# Altium footprint library ARM_Libary_EURO.PcbLib: 112 footprints (part 3 of 7)
Each footprint in its own frame and in the unit in brackets; x right, y up, seen from the top. Pads: shape width x height; smd on the part's side, far side on the other; paste and mask are expansions set on the pad; w line width, h text height; cw(c..) or ccw(c..) is an arc to the next point about the centre after c.
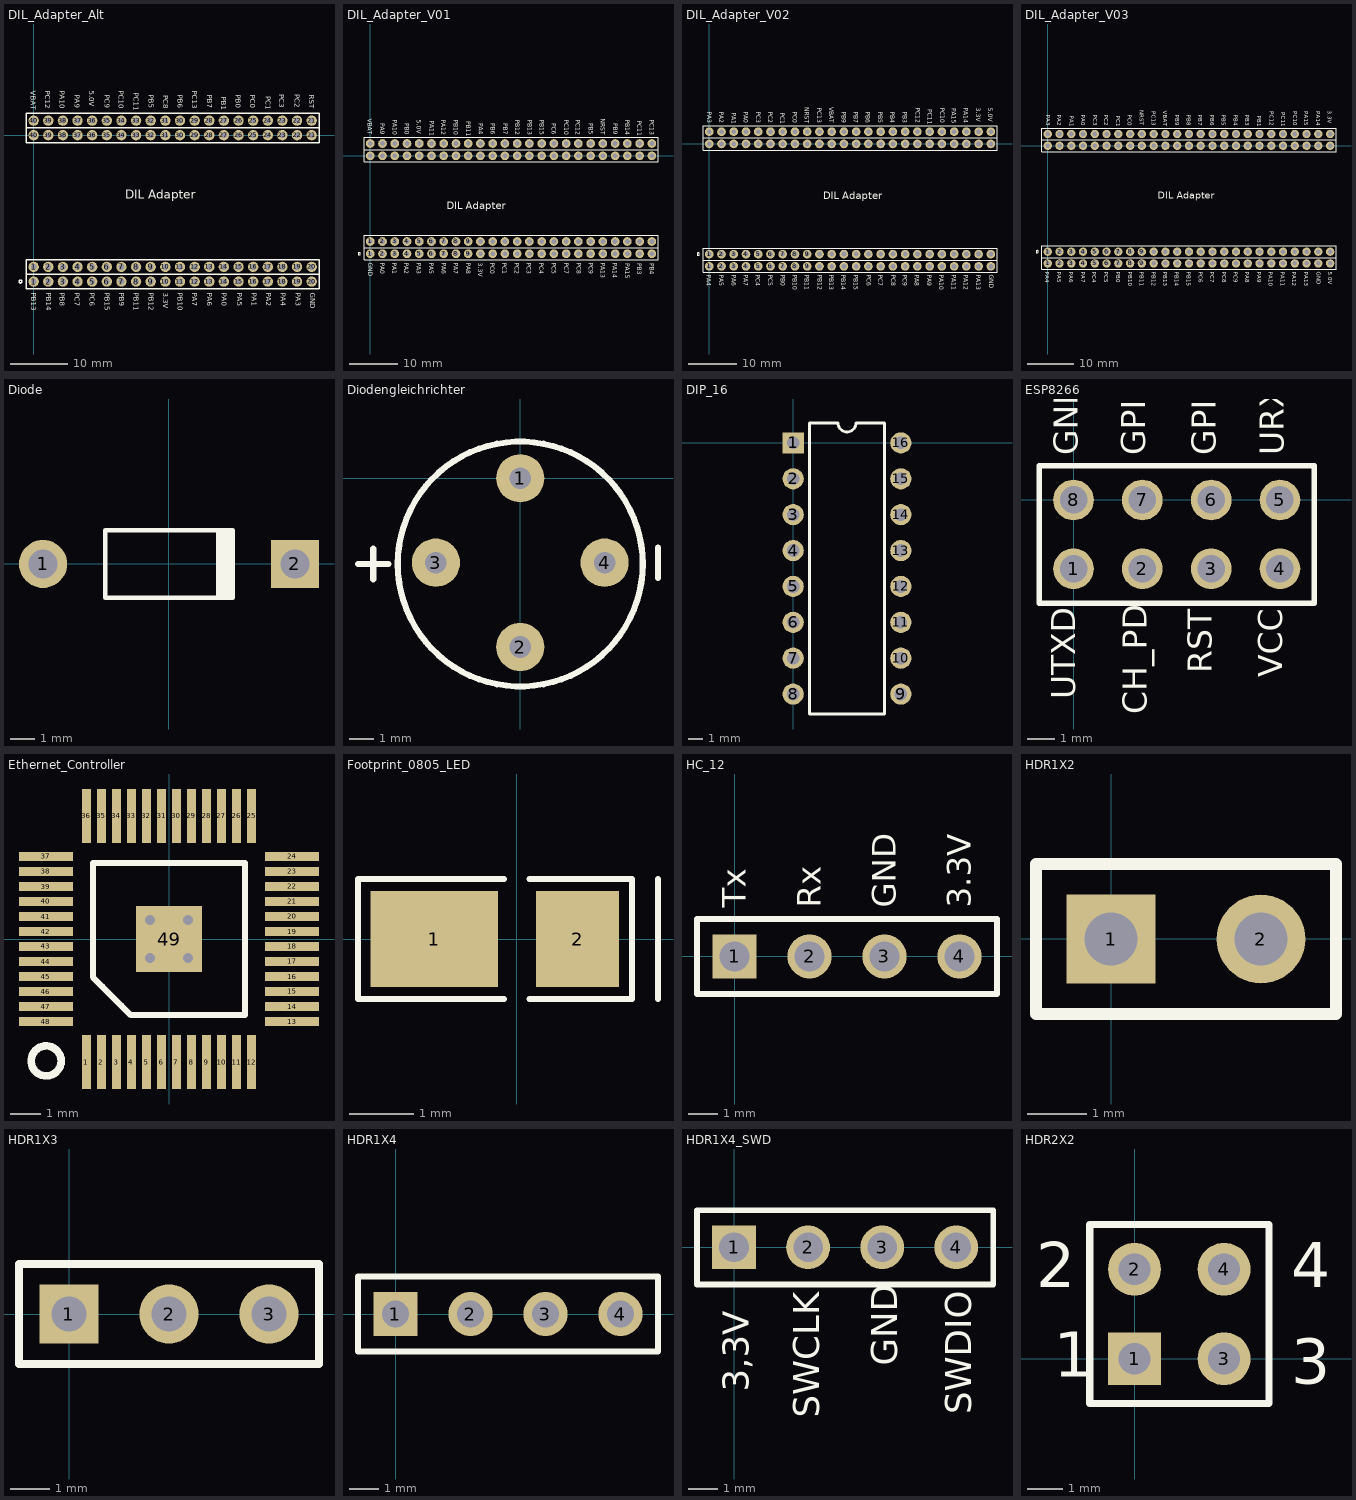
[diagram p2: the footprints below, top view; thin cyan lines are the x and y axes]

## DIL_Adapter_Alt [mm] "DIL_Adapter"
pads (80):
  round 1.8 hole 1: 1(0,-25.4) 1(0,-22.86) 2(2.54,-25.4) 2(2.54,-22.86) 3(5.08,-25.4) 3(5.08,-22.86) 4(7.62,-25.4) 4(7.62,-22.86) 5(10.16,-25.4) 5(10.16,-22.86) 6(12.7,-25.4) 6(12.7,-22.86) 7(15.24,-25.4) 7(15.24,-22.86) 8(17.78,-25.4) 8(17.78,-22.86) 9(20.32,-25.4) 9(20.32,-22.86) 10(22.86,-25.4) 10(22.86,-22.86) 11(25.4,-25.4) 11(25.4,-22.86) 12(27.94,-25.4) 12(27.94,-22.86) 13(30.48,-25.4) 13(30.48,-22.86) 14(33.02,-25.4) 14(33.02,-22.86) 15(35.56,-25.4) 15(35.56,-22.86) 16(38.1,-25.4) 16(38.1,-22.86) 17(40.64,-25.4) 17(40.64,-22.86) 18(43.18,-25.4) 18(43.18,-22.86) 19(45.72,-25.4) 19(45.72,-22.86) 20(48.26,-25.4) 20(48.26,-22.86) 21(48.26,0) 21(48.26,2.54) 22(45.72,0) 22(45.72,2.54) 23(43.18,0) 23(43.18,2.54) 24(40.64,0) 24(40.64,2.54) 25(38.1,0) 25(38.1,2.54) 26(35.56,0) 26(35.56,2.54) 27(33.02,0) 27(33.02,2.54) 28(30.48,0) 28(30.48,2.54) 29(27.94,0) 29(27.94,2.54) 30(25.4,0) 30(25.4,2.54) 31(22.86,0) 31(22.86,2.54) 32(20.32,0) 32(20.32,2.54) 33(17.78,0) 33(17.78,2.54) 34(15.24,0) 34(15.24,2.54) 35(12.7,0) 35(12.7,2.54) 36(10.16,0) 36(10.16,2.54) 37(7.62,0) 37(7.62,2.54) 38(5.08,0) 38(5.08,2.54) 39(2.54,0) 39(2.54,2.54) 40(0,0) 40(0,2.54)
Top Overlay:
  circle w0.254: c-2.286,-25.4 r0.254
  lines w0.254: -1.27,-24.13 49.53,-24.13 ; -1.27,-24.13 -1.27,-26.67 49.53,-26.67 49.53,-24.13 ; -1.27,-24.13 -1.27,-21.59 49.53,-21.59 49.53,-24.13 ; -1.27,-24.13 49.53,-24.13 ; -1.27,1.27 -1.27,3.81 49.53,3.81 49.53,1.27 ; -1.27,1.27 49.53,1.27 ; -1.27,1.27 -1.27,-1.27 49.53,-1.27 49.53,1.27 ; -1.27,1.27 49.53,1.27
  text "DIL Adapter" at 15.875,-11.049 h1.52
  text "GND" at 48.006,-27.305 h0.89
  text "PA3" at 45.466,-27.305 h0.89
  text "PA4" at 42.926,-27.305 h0.89
  text "PA2" at 40.386,-27.305 h0.89
  text "PA1" at 37.846,-27.305 h0.89
  text "PA0" at 32.639,-27.305 h0.89
  text "PA7" at 27.559,-27.305 h0.89
  text "PA6" at 30.099,-27.305 h0.89
  text "PB10" at 25.019,-27.305 h0.89
  text "3.3V" at 22.479,-27.305 h0.89
  text "PB12" at 19.939,-27.305 h0.89
  text "PB11" at 17.399,-27.305 h0.89
  text "PB9" at 14.859,-27.305 h0.89
  text "PB15" at 12.319,-27.305 h0.89
  text "PC7" at 7.112,-27.305 h0.89
  text "PC6" at 9.779,-27.305 h0.89
  text "PB14" at 2.159,-27.305 h0.89
  text "PB13" at -0.381,-27.305 h0.89
  text "PA5" at 35.306,-27.305 h0.89
  text "PC10" at 14.732,7.747 h0.89
  text "RST" at 47.879,6.985 h0.89
  text "PC2" at 45.339,7.112 h0.89
  text "PC1" at 40.259,6.731 h0.89
  text "PC3" at 42.672,7.112 h0.89
  text "PC0" at 37.592,6.985 h0.89
  text "PB0" at 35.1,6.985 h0.89
  text "PB1" at 32.6,6.7 h0.89
  text "PB7" at 30.099,6.985 h0.89
  text "PC13" at 27.559,7.747 h0.89
  text "PB6" at 25.019,6.985 h0.89
  text "PB5" at 19.939,6.985 h0.89
  text "PC8" at 22.5,6.934 h0.89
  text "PC11" at 17.399,7.366 h0.89
  text "PC9" at 12.3,7 h0.89
  text "5.0V" at 9.652,7.747 h0.89
  text "PA9" at 7.112,6.985 h0.89
  text "PA10" at 4.572,7.747 h0.89
  text "PC12" at 2.032,7.747 h0.89
  text "VBAT" at -0.508,7.747 h0.89
  text "PB8" at 4.572,-27.305 h0.89

## DIL_Adapter_V01 [mm] "DIL_Adapter"
pads (96):
  round 1.8 hole 1: 1(0,-20.32) 1(0,-17.78) 2(2.54,-20.32) 2(2.54,-17.78) 3(5.08,-20.32) 3(5.08,-17.78) 4(7.62,-20.32) 4(7.62,-17.78) 5(10.16,-20.32) 5(10.16,-17.78) 6(12.7,-20.32) 6(12.7,-17.78) 7(15.24,-20.32) 7(15.24,-17.78) 8(17.78,-20.32) 8(17.78,-17.78) 9(20.32,-20.32) 9(20.32,-17.78) 10(22.86,-20.32) 10(22.86,-17.78) 11(25.4,-20.32) 11(25.4,-17.78) 12(27.94,-20.32) 12(27.94,-17.78) 13(30.48,-20.32) 13(30.48,-17.78) 14(33.02,-20.32) 14(33.02,-17.78) 15(35.56,-20.32) 15(35.56,-17.78) 16(38.1,-20.32) 16(38.1,-17.78) 17(40.64,-20.32) 17(40.64,-17.78) 18(43.18,-20.32) 18(43.18,-17.78) 19(45.72,-20.32) 19(45.72,-17.78) 20(48.26,-20.32) 20(48.26,-17.78) 21(50.8,-20.32) 21(50.8,-17.78) 22(53.34,-20.32) 22(53.34,-17.78) 23(55.88,-20.32) 23(55.88,-17.78) 24(58.42,-20.32) 24(58.42,-17.78) 25(58.42,0) 25(58.42,2.54) 26(55.88,0) 26(55.88,2.54) 27(53.34,0) 27(53.34,2.54) 28(50.8,0) 28(50.8,2.54) 29(48.26,0) 29(48.26,2.54) 30(45.72,0) 30(45.72,2.54) 31(43.18,0) 31(43.18,2.54) 32(40.64,0) 32(40.64,2.54) 33(38.1,0) 33(38.1,2.54) 34(35.56,0) 34(35.56,2.54) 35(33.02,0) 35(33.02,2.54) 36(30.48,0) 36(30.48,2.54) 37(27.94,0) 37(27.94,2.54) 38(25.4,0) 38(25.4,2.54) 39(22.86,0) 39(22.86,2.54) 40(20.32,0) 40(20.32,2.54) 41(17.78,0) 41(17.78,2.54) 42(15.24,0) 42(15.24,2.54) 43(12.7,0) 43(12.7,2.54) 44(10.16,0) 44(10.16,2.54) 45(7.62,0) 45(7.62,2.54) 46(5.08,0) 46(5.08,2.54) 47(2.54,0) 47(2.54,2.54) 48(0,0) 48(0,2.54)
Top Overlay:
  circle w0.254: c-2.286,-20.32 r0.254
  lines w0.254: -1.27,-19.05 49.53,-19.05 ; -1.27,-19.05 -1.27,-21.59 49.53,-21.59 59.69,-21.59 59.69,-19.05 ; -1.27,-19.05 -1.27,-16.51 49.53,-16.51 59.69,-16.51 59.69,-19.05 ; -1.27,-19.05 49.53,-19.05 ; -1.27,-1.27 49.53,-1.27 59.69,-1.27 59.69,3.81 ; -1.27,-1.27 -1.27,1.27 ; -1.27,-1.27 -1.27,1.27 ; -1.27,1.27 49.53,1.27 ; -1.27,1.27 49.53,1.27 ; -1.27,1.27 -1.27,3.81 49.53,3.81 59.69,3.81 ; 49.53,-19.05 59.69,-19.05 ; 49.53,-19.05 59.69,-19.05 ; 49.53,1.27 59.69,1.27 59.69,3.81
  text "PB4" at 58,-22.32 h0.89
  text "PB3" at 55.4,-22.32 h0.89
  text "PA15" at 52.9,-22.32 h0.89
  text "PA14" at 50.3,-22.22 h0.89
  text "PA13" at 47.8,-22.22 h0.89
  text "PC9" at 45.3,-22.22 h0.89
  text "PC8" at 42.8,-22.22 h0.89
  text "PC7" at 40.2,-22.225 h0.89
  text "PC5" at 37.7,-22.22 h0.89
  text "PC3" at 32.5,-22.225 h0.89
  text "PC1" at 27.4,-22.22 h0.89
  text "PC2" at 30,-22.225 h0.89
  text "PC0" at 24.9,-22.225 h0.89
  text "3.3V" at 22.4,-22.22 h0.89
  text "PA8" at 19.9,-22.225 h0.89
  text "PA7" at 17.3,-22.225 h0.89
  text "PA6" at 14.8,-22.225 h0.89
  text "PA5" at 12.2,-22.22 h0.89
  text "PA2" at 7.1,-22.225 h0.89
  text "PA3" at 9.6,-22.225 h0.89
  text "PA0" at 2.1,-22.22 h0.89
  text "GND" at -0.4,-22.225 h0.89
  text "PC4" at 35.1,-22.22 h0.89
  text "PA1" at 4.6,-22.225 h0.89
  text "NRST" at 47.8,7.65 h0.89
  text "DIL Adapter" at 15.875,-11.049 h1.52
  text "PB13" at 32.64,7.5 h0.89
  text "VBAT" at -0.508,7.647 h0.89
  text "PA9" at 2.125,6.767 h0.89
  text "PA10" at 4.652,7.522 h0.89
  text "PB0" at 7.2,6.767 h0.89
  text "5.0V" at 9.652,7.522 h0.89
  text "PA11" at 12.319,7.221 h0.89
  text "PB10" at 17.299,7.516 h0.89
  text "PA4" at 22.479,6.771 h0.89
  text "PB11" at 19.939,7.21 h0.89
  text "PB6" at 25.019,6.768 h0.89
  text "PB7" at 27.559,6.767 h0.89
  text "PA12" at 14.732,7.522 h0.89
  text "PB12" at 30.099,7.51 h0.89
  text "PB15" at 35.179,7.506 h0.89
  text "PC6" at 37.692,6.768 h0.89
  text "PC12" at 42.672,7.512 h0.89
  text "PC10" at 40.259,7.506 h0.89
  text "PB5" at 45.339,6.762 h0.89
  text "PB9" at 50.375,6.775 h0.89
  text "PB14" at 52.88,7.5 h0.89
  text "PC11" at 55.42,7.225 h0.89
  text "PC13" at 57.96,7.5 h0.89

## DIL_Adapter_V02 [mm] "DIL_Adapter"
pads (96):
  round 1.8 hole 1: 1(0,-25.4) 1(0,-22.86) 2(2.54,-25.4) 2(2.54,-22.86) 3(5.08,-25.4) 3(5.08,-22.86) 4(7.62,-25.4) 4(7.62,-22.86) 5(10.16,-25.4) 5(10.16,-22.86) 6(12.7,-25.4) 6(12.7,-22.86) 7(15.24,-25.4) 7(15.24,-22.86) 8(17.78,-25.4) 8(17.78,-22.86) 9(20.32,-25.4) 9(20.32,-22.86) 10(22.86,-25.4) 10(22.86,-22.86) 11(25.4,-25.4) 11(25.4,-22.86) 12(27.94,-25.4) 12(27.94,-22.86) 13(30.48,-25.4) 13(30.48,-22.86) 14(33.02,-25.4) 14(33.02,-22.86) 15(35.56,-25.4) 15(35.56,-22.86) 16(38.1,-25.4) 16(38.1,-22.86) 17(40.64,-25.4) 17(40.64,-22.86) 18(43.18,-25.4) 18(43.18,-22.86) 19(45.72,-25.4) 19(45.72,-22.86) 20(48.26,-25.4) 20(48.26,-22.86) 21(50.8,-25.4) 21(50.8,-22.86) 22(53.34,-25.4) 22(53.34,-22.86) 23(55.88,-25.4) 23(55.88,-22.86) 24(58.42,-25.4) 24(58.42,-22.86) 25(58.42,0) 25(58.42,2.54) 26(55.88,0) 26(55.88,2.54) 27(53.34,0) 27(53.34,2.54) 28(50.8,0) 28(50.8,2.54) 29(48.26,0) 29(48.26,2.54) 30(45.72,0) 30(45.72,2.54) 31(43.18,0) 31(43.18,2.54) 32(40.64,0) 32(40.64,2.54) 33(38.1,0) 33(38.1,2.54) 34(35.56,0) 34(35.56,2.54) 35(33.02,0) 35(33.02,2.54) 36(30.48,0) 36(30.48,2.54) 37(27.94,0) 37(27.94,2.54) 38(25.4,0) 38(25.4,2.54) 39(22.86,0) 39(22.86,2.54) 40(20.32,0) 40(20.32,2.54) 41(17.78,0) 41(17.78,2.54) 42(15.24,0) 42(15.24,2.54) 43(12.7,0) 43(12.7,2.54) 44(10.16,0) 44(10.16,2.54) 45(7.62,0) 45(7.62,2.54) 46(5.08,0) 46(5.08,2.54) 47(2.54,0) 47(2.54,2.54) 48(0,0) 48(0,2.54)
Top Overlay:
  circle w0.254: c-2.286,-22.86 r0.254
  lines w0.254: -1.27,-22.86 -1.27,-26.67 ; -1.27,-26.67 49.53,-26.67 ; -1.27,-26.67 49.53,-26.67 ; -1.27,-26.67 49.53,-26.67 ; -1.27,-26.67 49.53,-26.67 ; -1.27,-24.13 49.53,-24.13 ; -1.27,-24.13 -1.27,-21.59 49.53,-21.59 59.69,-21.59 59.69,-24.13 ; -1.27,-24.13 49.53,-24.13 ; -1.27,-1.27 49.53,-1.27 59.69,-1.27 59.69,1.27 ; -1.27,-1.27 -1.27,1.27 ; -1.27,-1.27 -1.27,1.27 ; -1.27,1.27 49.53,1.27 ; -1.27,1.27 49.53,1.27 ; -1.27,1.27 -1.27,3.81 ; -1.27,3.81 49.53,3.81 ; -1.27,3.81 49.53,3.81 ; 49.53,-26.67 59.69,-26.67 ; 49.53,-26.67 59.69,-26.67 ; 49.53,-26.67 59.69,-26.67 ; 49.53,-26.67 59.69,-26.67 ; 49.53,-24.13 59.69,-24.13 ; 49.53,-24.13 59.69,-24.13 ; 49.53,1.27 59.69,1.27 ; 49.53,3.81 59.69,3.81 59.69,1.27 ; 59.69,-26.67 59.69,-24.13
  text "PC4" at 9.652,-27.178 h0.89
  text "GND" at 58.039,-27.178 h0.89
  text "PA5" at 2.032,-27.178 h0.89
  text "PA6" at 4.623,-27.178 h0.89
  text "PA7" at 7.188,-27.178 h0.89
  text "PA8" at 42.672,-27.178 h0.89
  text "PC5" at 12.243,-27.178 h0.89
  text "PC7" at 35.052,-27.178 h0.89
  text "PC8" at 37.719,-27.178 h0.89
  text "PC9" at 40.132,-27.178 h0.89
  text "PA13" at 55.372,-27.178 h0.89
  text "PB14" at 27.432,-27.178 h0.89
  text "PC6" at 32.639,-27.178 h0.89
  text "PB15" at 29.972,-27.178 h0.89
  text "PB12" at 22.479,-27.178 h0.89
  text "PA12" at 52.832,-27.178 h0.89
  text "PB11" at 19.812,-27.178 h0.89
  text "PA4" at -0.508,-27.178 h0.89
  text "PB10" at 17.348,-27.178 h0.89
  text "PA11" at 50.292,-27.178 h0.89
  text "PB0" at 14.834,-27.178 h0.89
  text "PA10" at 47.752,-27.178 h0.89
  text "PA9" at 45.212,-27.178 h0.89
  text "PB13" at 24.892,-27.178 h0.89
  text "DIL Adapter" at 23.698,-11.43 h1.52
  text "PA1" at 4.699,6.446 h0.89
  text "PA0" at 7.188,6.7 h0.89
  text "PA3" at -0.381,6.7 h0.89
  text "PA2" at 2.032,6.7 h0.89
  text "3.3V" at 55.372,7.493 h0.89
  text "PC0" at 17.272,6.7 h0.89
  text "PC2" at 12.192,6.7 h0.89
  text "PC1" at 14.732,6.446 h0.89
  text "PC3" at 9.779,6.7 h0.89
  text "PA14" at 52.832,7.462 h0.89
  text "PA15" at 50.292,7.409 h0.89
  text "PB3" at 40.132,6.7 h0.89
  text "PB4" at 37.592,6.7 h0.89
  text "PC13" at 22.428,7.462 h0.89
  text "PC11" at 45.339,7.208 h0.89
  text "PB9" at 27.508,6.7 h0.89
  text "PB5" at 35.052,6.7 h0.89
  text "PC10" at 47.879,7.462 h0.89
  text "PC12" at 42.799,7.462 h0.89
  text "PB7" at 29.972,6.7 h0.89
  text "PB6" at 32.512,6.7 h0.89
  text "5.0V" at 57.912,7.493 h0.89
  text "VBAT" at 24.892,7.558 h0.89
  text "NRST" at 19.812,7.589 h0.89

## DIL_Adapter_V03 [mm] "DIL_Adapter"
pads (100):
  round 1.8 hole 1: 1(0,-25.4) 1(0,-22.86) 2(2.54,-25.4) 2(2.54,-22.86) 3(5.08,-25.4) 3(5.08,-22.86) 4(7.62,-25.4) 4(7.62,-22.86) 5(10.16,-25.4) 5(10.16,-22.86) 6(12.7,-25.4) 6(12.7,-22.86) 7(15.24,-25.4) 7(15.24,-22.86) 8(17.78,-25.4) 8(17.78,-22.86) 9(20.32,-25.4) 9(20.32,-22.86) 10(22.86,-25.4) 10(22.86,-22.86) 11(25.4,-25.4) 11(25.4,-22.86) 12(27.94,-25.4) 12(27.94,-22.86) 13(30.48,-25.4) 13(30.48,-22.86) 14(33.02,-25.4) 14(33.02,-22.86) 15(35.56,-25.4) 15(35.56,-22.86) 16(38.1,-25.4) 16(38.1,-22.86) 17(40.64,-25.4) 17(40.64,-22.86) 18(43.18,-25.4) 18(43.18,-22.86) 19(45.72,-25.4) 19(45.72,-22.86) 20(48.26,-25.4) 20(48.26,-22.86) 21(50.8,-25.4) 21(50.8,-22.86) 22(53.34,-25.4) 22(53.34,-22.86) 23(55.88,-25.4) 23(55.88,-22.86) 24(58.42,-25.4) 24(58.42,-22.86) 25(60.96,-25.4) 25(60.96,-22.86) 26(60.96,0) 26(60.96,2.54) 27(58.42,0) 27(58.42,2.54) 28(55.88,0) 28(55.88,2.54) 29(53.34,0) 29(53.34,2.54) 30(50.8,0) 30(50.8,2.54) 31(48.26,0) 31(48.26,2.54) 32(45.72,0) 32(45.72,2.54) 33(43.18,0) 33(43.18,2.54) 34(40.64,0) 34(40.64,2.54) 35(38.1,0) 35(38.1,2.54) 36(35.56,0) 36(35.56,2.54) 37(33.02,0) 37(33.02,2.54) 38(30.48,0) 38(30.48,2.54) 39(27.94,0) 39(27.94,2.54) 40(25.4,0) 40(25.4,2.54) 41(22.86,0) 41(22.86,2.54) 42(20.32,0) 42(20.32,2.54) 43(17.78,0) 43(17.78,2.54) 44(15.24,0) 44(15.24,2.54) 45(12.7,0) 45(12.7,2.54) 46(10.16,0) 46(10.16,2.54) 47(7.62,0) 47(7.62,2.54) 48(5.08,0) 48(5.08,2.54) 49(2.54,0) 49(2.54,2.54) 50(0,0) 50(0,2.54)
Top Overlay:
  circle w0.254: c-2.286,-22.86 r0.254
  lines w0.254: 59.69,-26.67 49.53,-26.67 ; 59.69,-24.13 49.53,-24.13 ; -1.27,-26.67 49.53,-26.67 ; -1.27,-26.67 -1.27,-24.13 ; -1.27,-26.67 49.53,-26.67 ; -1.27,-24.13 49.53,-24.13 ; -1.27,-24.13 -1.27,-21.59 49.53,-21.59 62.23,-21.59 62.23,-24.13 ; -1.27,-24.13 49.53,-24.13 ; -1.27,-1.27 -1.27,1.27 ; -1.27,-1.27 -1.27,1.27 ; -1.27,-1.27 49.53,-1.27 62.23,-1.27 62.23,1.27 ; -1.27,1.27 -1.27,3.81 ; -1.27,1.27 -1.27,3.81 ; -1.27,1.27 49.53,1.27 ; -1.27,1.27 49.53,1.27 ; -1.27,3.81 49.53,3.81 ; -1.27,3.81 49.53,3.81 ; 49.53,-26.67 62.23,-26.67 62.23,-24.13 ; 49.53,-24.13 62.23,-24.13 ; 49.53,1.27 62.23,1.27 ; 49.53,3.81 62.23,3.81 62.23,1.27
  text "5.0V" at 60.579,-27.178 h0.89
  text "PC4" at 9.652,-27.178 h0.89
  text "GND" at 58.039,-27.178 h0.89
  text "PA5" at 2.032,-27.178 h0.89
  text "PA6" at 4.623,-27.178 h0.89
  text "PA7" at 7.188,-27.178 h0.89
  text "PA8" at 42.672,-27.178 h0.89
  text "PC5" at 12.243,-27.178 h0.89
  text "PC7" at 35.052,-27.178 h0.89
  text "PC8" at 37.719,-27.178 h0.89
  text "PC9" at 40.132,-27.178 h0.89
  text "PA13" at 55.372,-27.178 h0.89
  text "PB14" at 27.432,-27.178 h0.89
  text "PC6" at 32.639,-27.178 h0.89
  text "PB15" at 29.972,-27.178 h0.89
  text "PB12" at 22.479,-27.178 h0.89
  text "PA12" at 52.832,-27.178 h0.89
  text "PB11" at 19.812,-27.178 h0.89
  text "PA4" at -0.508,-27.178 h0.89
  text "PB10" at 17.348,-27.178 h0.89
  text "PA11" at 50.292,-27.178 h0.89
  text "PB0" at 14.834,-27.178 h0.89
  text "PA10" at 47.752,-27.178 h0.89
  text "PA9" at 45.212,-27.178 h0.89
  text "PB13" at 24.892,-27.178 h0.89
  text "PB1" at 45.212,6.477 h0.89
  text "PB8" at 29.972,6.731 h0.89
  text "PA1" at 4.699,6.477 h0.89
  text "PA0" at 7.188,6.731 h0.89
  text "PA3" at -0.381,6.731 h0.89
  text "PA2" at 2.032,6.731 h0.89
  text "3.3V" at 60.452,7.524 h0.89
  text "PC0" at 17.272,6.731 h0.89
  text "PC2" at 12.192,6.731 h0.89
  text "PC1" at 14.732,6.477 h0.89
  text "PC3" at 9.779,6.731 h0.89
  text "PA14" at 57.912,7.493 h0.89
  text "PA15" at 55.372,7.44 h0.89
  text "PB3" at 42.672,6.731 h0.89
  text "PB4" at 40.132,6.731 h0.89
  text "PC13" at 22.428,7.493 h0.89
  text "PC11" at 50.419,7.239 h0.89
  text "PB9" at 27.508,6.731 h0.89
  text "PB5" at 37.592,6.731 h0.89
  text "PC10" at 52.959,7.493 h0.89
  text "PC12" at 47.879,7.493 h0.89
  text "PB7" at 32.512,6.731 h0.89
  text "PB6" at 35.052,6.731 h0.89
  text "VBAT" at 24.892,7.589 h0.89
  text "NRST" at 19.812,7.62 h0.89
  text "DIL Adapter" at 23.698,-11.43 h1.52

## Diode [mm] "Diode, Axial; Body 5.2 x 2.7 mm (LxDia. max), Lead Dia. 0.86 mm (max)"
height 2.8
pads (2):
  round 2 hole 1.2: 1(-5.23,0)
  rect 2x2 hole 1.2: 2(5.23,0)
Top Overlay:
  rectangle: 1.949,-1.403 2.749,1.397
  lines w0.2: 2.65,-1.4 -2.65,-1.4 -2.65,1.4 2.65,1.4

## Diodengleichrichter [mm] "B40C800"
pads (4):
  round 2 hole 0.9: 1(0,0) 2(0,-7) 3(-3.5,-3.5) 4(3.5,-3.5)
Top Overlay:
  circle w0.254: c0,-3.556 r5.08
  lines w0.254: -6.731,-3.556 -5.461,-3.556 ; -6.096,-4.191 -6.096,-2.921 ; 5.715,-4.135 5.715,-2.865

## DIP_16 [mm]
pads (16):
  rect 1.5x1.5 hole 0.9: 1(0,0)
  round 1.5 hole 0.9: 2(0,-2.54) 3(0,-5.08) 4(0,-7.62) 5(0,-10.16) 6(0,-12.7) 7(0,-15.24) 8(0,-17.78) 9(7.62,-17.78) 10(7.62,-15.24) 11(7.62,-12.7) 12(7.62,-10.16) 13(7.62,-7.62) 14(7.62,-5.08) 15(7.62,-2.54) 16(7.62,0)
Top Overlay:
  lines w0.2: 1.16,-19.19 6.46,-19.19 6.46,1.41 4.445,1.41 cw(c3.81,1.41) 3.175,1.41 1.16,1.41 1.16,-19.19

## ESP8266 [mm]
pads (8):
  round 1.5 hole 1.016: 1(0,-2.54) 2(2.54,-2.54) 3(5.08,-2.54) 4(7.62,-2.54) 5(7.62,0) 6(5.08,0) 7(2.54,0) 8(0,0)
Top Overlay:
  lines w0.2: -1.27,-3.81 -1.27,1.27 8.89,1.27 8.89,-3.81 -1.27,-3.81
  text "URXD" at 8.05,1.65 h1.52
  text "GPIO0" at 5.55,1.65 h1.52
  text "GPIO2" at 2.95,1.65 h1.52
  text "GND" at 0.45,1.65 h1.52
  text "UTXD" at 0.35,-7.35 h1.52
  text "CH_PD" at 3,-7.9 h1.52
  text "RST" at 5.4,-6.4 h1.52
  text "VCC" at 8,-6.55 h1.52

## Ethernet_Controller [mm] "DP83848VYB"
pads (49):
  rect 0.3x1.8 smd: 1(-2.75,-4.1) 2(-2.25,-4.1) 3(-1.75,-4.1) 4(-1.25,-4.1) 5(-0.75,-4.1) 6(-0.25,-4.1) 7(0.25,-4.1) 8(0.75,-4.1) 9(1.25,-4.1) 10(1.75,-4.1) 11(2.25,-4.1) 12(2.75,-4.1) 25(2.75,4.1) 26(2.25,4.1) 27(1.75,4.1) 28(1.25,4.1) 29(0.75,4.1) 30(0.25,4.1) 31(-0.25,4.1) 32(-0.75,4.1) 33(-1.25,4.1) 34(-1.75,4.1) 35(-2.25,4.1) 36(-2.75,4.1)
  rect 1.8x0.3 smd: 13(4.1,-2.75) 14(4.1,-2.25) 15(4.1,-1.75) 16(4.1,-1.25) 17(4.1,-0.75) 18(4.1,-0.25) 19(4.1,0.25) 20(4.1,0.75) 21(4.1,1.25) 22(4.1,1.75) 23(4.1,2.25) 24(4.1,2.75) 37(-4.1,2.75) 38(-4.1,2.25) 39(-4.1,1.75) 40(-4.1,1.25) 41(-4.1,0.75) 42(-4.1,0.25) 43(-4.1,-0.25) 44(-4.1,-0.75) 45(-4.1,-1.25) 46(-4.1,-1.75) 47(-4.1,-2.25) 48(-4.1,-2.75)
  rect 2.2x2.2 smd: 49(0,0)
via 0.635,-0.635 diameter 0.66 hole 0.33
via -0.635,-0.635 diameter 0.66 hole 0.33
via 0.635,0.635 diameter 0.66 hole 0.33
via -0.635,0.635 diameter 0.66 hole 0.33
Top Overlay:
  circle w0.254: c-4.094,-4.064 r0.5
  lines w0.2: -2.54,-1.27 -2.222,-1.587 -1.587,-2.222 -1.27,-2.54 2.54,-2.54 2.54,2.54 -2.54,2.54 -2.54,-1.27

## Footprint_0805_LED [mm]
pads (2):
  rect 2x1.5 smd: 1(-1.295,0)
  rect 1.3x1.5 smd: 2(0.95,0)
Top Overlay:
  lines w0.1: -0.203,-0.94 -2.489,-0.94 -2.489,0.94 -0.203,0.94 ; 0.203,-0.94 1.803,-0.94 1.803,0.94 0.203,0.94 ; 2.21,-0.94 2.21,0.94

## HC_12 [mm]
pads (4):
  rect 1.5x1.5 hole 1.016: 1(0,0)
  round 1.5 hole 1.016: 2(2.54,0) 3(5.08,0) 4(7.62,0)
Top Overlay:
  lines w0.2: -1.27,-1.27 0.635,-1.27 8.89,-1.27 8.89,1.27 -1.27,1.27 -1.27,-1.27
  text "Tx" at 0.381,1.651 h0.8
  text "Rx" at 2.921,1.651 h0.8
  text "GND" at 5.461,1.651 h0.8
  text "3.3V" at 8.001,1.651 h0.8

## HDR1X2 [mm] "Connector; Header; 2 Position"
height 2.54
pads (2):
  rect 1.5x1.5 hole 0.9: 1(0,0)
  round 1.5 hole 0.9: 2(2.54,0)
Top Overlay:
  lines w0.2: -1.27,-1.27 -1.27,1.27 3.81,1.27 3.81,-1.27 -1.27,-1.27

## HDR1X3 [mm] "Connector; Header; 3 Position"
height 2.54
pads (3):
  rect 1.5x1.5 hole 0.9: 1(0,0)
  round 1.5 hole 0.9: 2(2.54,0) 3(5.08,0)
Top Overlay:
  lines w0.2: -1.27,-1.27 -1.27,1.27 6.35,1.27 6.35,-1.27 -1.27,-1.27

## HDR1X4 [mm] "Connector; Header; 3 Position"
height 2.54
pads (4):
  rect 1.5x1.5 hole 0.9: 1(0,0)
  round 1.5 hole 0.9: 2(2.54,0) 3(5.08,0) 4(7.62,0)
Top Overlay:
  lines w0.2: -1.27,-1.27 8.89,-1.27 8.89,1.27 -1.27,1.27 -1.27,-1.27

## HDR1X4_SWD [mm]
pads (4):
  rect 1.5x1.5 hole 1.016: 1(0,0)
  round 1.5 hole 1.016: 2(2.54,0) 3(5.08,0) 4(7.62,0)
Top Overlay:
  lines w0.2: -1.27,-1.27 8.89,-1.27 8.89,1.27 -1.27,1.27 -1.27,-1.27
  text "3,3V" at 0.508,-4.953 h0.89
  text "SWCLK" at 2.921,-5.842 h0.89
  text "GND" at 5.588,-4.064 h0.89
  text "SWDIO" at 8.128,-5.715 h0.89

## HDR2X2 [mm] "Connector; Header; 3x2 Position"
height 2.54
pads (4):
  rect 1.5x1.5 hole 0.9: 1(0,0)
  round 1.5 hole 0.9: 2(0,2.54) 3(2.54,0) 4(2.54,2.54)
Top Overlay:
  lines w0.2: 1.482,-1.27 3.81,-1.27 ; 3.81,-1.27 -1.27,-1.27 -1.27,3.81 3.81,3.81 3.81,-1.27
  text "1" at -2.286,-0.508 h1.27
  text "2" at -2.794,2.032 h1.27
  text "3" at 4.445,-0.711 h1.27
  text "4" at 4.445,2.032 h1.27